# Altium footprint library Machine_Side_v1.0.PcbLib: 1 footprints
Each footprint in its own frame and in the unit in brackets; x right, y up, seen from the top. Pads: shape width x height; smd on the part's side, far side on the other; paste and mask are expansions set on the pad; w line width, h text height; cw(c..) or ccw(c..) is an arc to the next point about the centre after c.
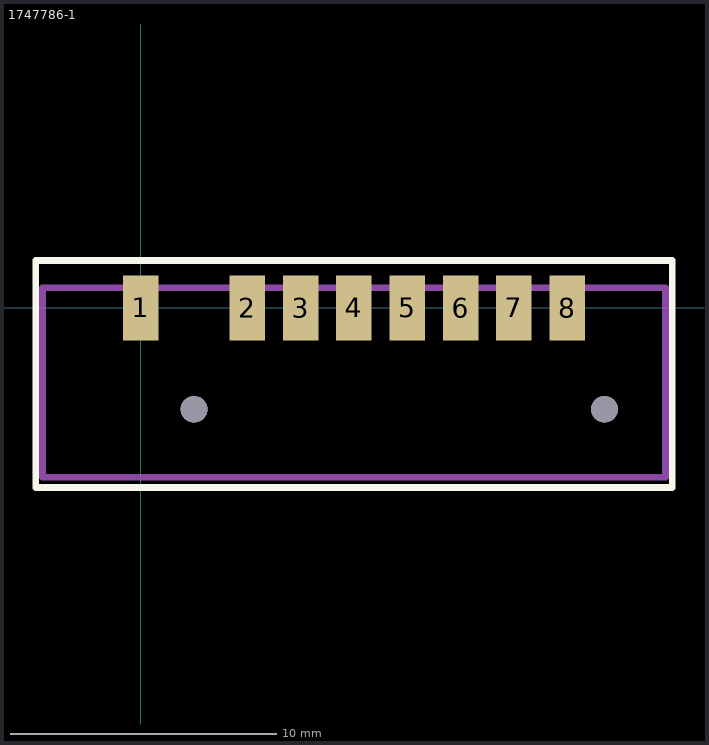
[diagram p0: the footprint, top view; thin cyan lines are the x and y axes]

## 1747786-1 [mm]
pads (10):
  rect 1.33x2.43 smd: 1(0,0) 2(4,0) 3(6,0) 4(8,0) 5(10,0) 6(12,0) 7(14,0) 8(16,0)
  round 1 hole 1 unplated: ""(2,-3.8) ""(17.4,-3.8)
Top Overlay:
  lines w0.254: -3.937,-6.731 -3.937,1.778 19.939,1.778 19.939,-6.731 -3.937,-6.731
Mechanical 1:
  lines w0.254: -3.683,-6.35 19.685,-6.35 19.685,0.762 -3.683,0.762 -3.683,-6.35
3D body "connector-1747786-1-o-3d.stp": height 6.56, standoff -0.59, extent -3.599,-6.21 19.601,0.69